# Altium footprint library C165948.PcbLib: 1 footprints
Each footprint in its own frame and in the unit in brackets; x right, y up, seen from the top. Pads: shape width x height; smd on the part's side, far side on the other; paste and mask are expansions set on the pad; w line width, h text height; cw(c..) or ccw(c..) is an arc to the next point about the centre after c.
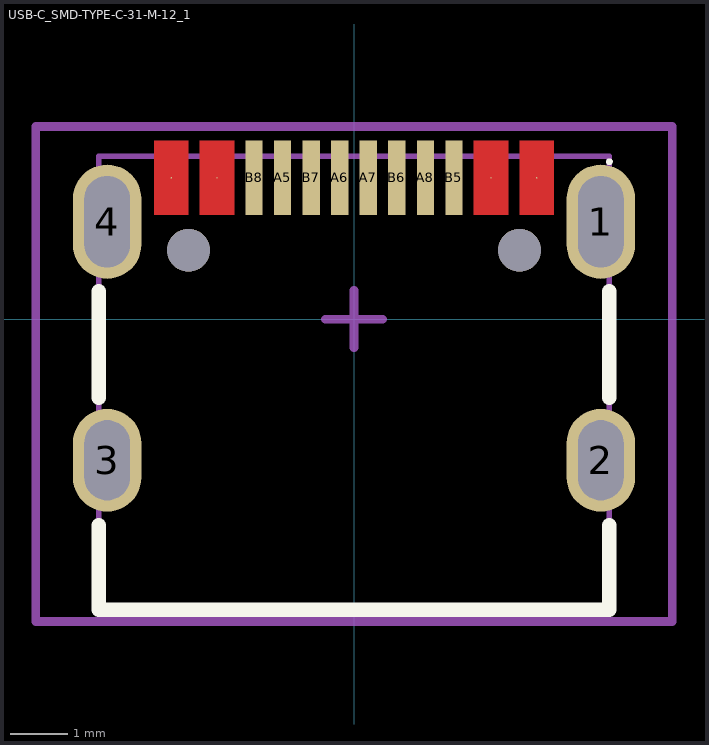
[diagram p0: the footprint, top view; thin cyan lines are the x and y axes]

## USB-C_SMD-TYPE-C-31-M-12_1 [mm] "USB-C (USB TYPE-C) Receptacle Connector 16 Position Surface Mount"
pads (18):
  rrect100% 1.2x2 hole 0.8 slot 1.6 at 90 deg: 1(4.325,1.706) 4(-4.325,1.706)
  rrect100% 1.2x1.8 hole 0.8 slot 1.4 at 90 deg: 2(4.325,-2.474) 3(-4.325,-2.474)
  round 0.025 smd: A1B12(-3.2,2.474) A4B9(-2.4,2.474) B1A12(3.2,2.474) B4A9(2.4,2.474)
  rect 0.3x1.3 smd: A5(-1.25,2.474) A6(-0.25,2.474) A7(0.25,2.474) A8(1.25,2.474) B5(1.75,2.474) B6(0.75,2.474) B7(-0.75,2.474) B8(-1.75,2.474)
  round 0.75 hole 0.75 unplated: ""(-2.9,1.206) ""(2.9,1.206)
Top Layer:
  region: -2.9,1.824 -2.9,3.124 -3.2,3.124 -3.5,3.124 -3.5,1.824 -3.2,1.824
  region: 2.9,3.124 2.9,1.824 3.2,1.824 3.5,1.824 3.5,3.124 3.2,3.124
  region: 2.7,1.824 2.7,3.124 2.4,3.124 2.1,3.124 2.1,1.824 2.4,1.824
  region: -2.1,1.824 -2.1,3.124 -2.4,3.124 -2.7,3.124 -2.7,1.824 -2.4,1.824
Top Overlay:
  circle w0.06: c4.475,2.756 r0.03
  lines w0.254: -4.469,-3.613 -4.469,-5.094 4.471,-5.094 4.471,-3.612 ; -4.469,-1.376 -4.469,0.487 ; 4.471,-1.376 4.471,0.488
Top Paste:
  drawing of 16 lines, arcs and shapes, not listed
AOI:
  circle w0.25: c2.9,1.206 r0.125
  circle w0.25: c-2.9,1.206 r0.125
  region: -4.475,-2.074 -4.175,-2.074 -4.175,-2.874 -4.475,-2.874
  region: 4.175,-2.074 4.475,-2.074 4.475,-2.874 4.175,-2.874
  region: 4.175,2.256 4.475,2.256 4.475,1.156 4.175,1.156
  region: -4.475,2.256 -4.175,2.256 -4.175,1.156 -4.475,1.156
  region: 1.65,2.756 1.85,2.756 1.85,2.056 1.65,2.056
  region: 1.15,2.756 1.35,2.756 1.35,2.056 1.15,2.056
  region: 0.65,2.756 0.85,2.756 0.85,2.056 0.65,2.056
  region: 0.15,2.756 0.35,2.756 0.35,2.056 0.15,2.056
  region: -0.35,2.756 -0.15,2.756 -0.15,2.056 -0.35,2.056
  region: -0.85,2.756 -0.65,2.756 -0.65,2.056 -0.85,2.056
  region: -1.35,2.756 -1.15,2.756 -1.15,2.056 -1.35,2.056
  region: -1.85,2.756 -1.65,2.756 -1.65,2.056 -1.85,2.056
  region: -3.4,2.756 -3,2.756 -3,2.056 -3.4,2.056
  region: -2.6,2.756 -2.2,2.756 -2.2,2.056 -2.6,2.056
  region: 2.2,2.756 2.6,2.756 2.6,2.056 2.2,2.056
  region: 3,2.756 3.4,2.756 3.4,2.056 3,2.056
Top 3D Body:
  lines w0.1: -4.47,-5.05 4.47,-5.05 4.47,2.85 -4.47,2.85 -4.47,-5.05
Top Courtyard:
  lines w0.15: -0.5,0 0.5,0 ; 0,-0.5 0,0.5 ; -5.575,-5.3 5.575,-5.3 5.575,3.374 -5.575,3.374 -5.575,-5.3
3D body "USB-C_SMD-TYPE-C-31-M-12_1.step": height 0.85, standoff 0, extent -4.47,-5.05 4.47,2.85